# EAGLE library part 615108150221R (library WR-MJ)
WR-MJ Cat 3 Modular Jacks – THR Characteristics Shieldingless and Shielded with EMI-Spring option Optional LEDs in various sequences Vertical and Horizontal orientation Stacked and assembled configurations Tape & Reel packaging for pick-and-place assembly (Tray for larger stacks) Properties PoE++ Compatible up to 100W (IEEE 802.3bt) UL and cULus-Certified UL94-V0 reflow-compatible insulator material Ethernet Category 3 – Category 5 under conditions Applications Networks Internet of Things Smart Buildings <https://www.we-online.com/components/media/o863340v209%20Multi-WR-MJTH-615108137421R.jpg> Details see: www.we-online.com/en/components/products/WR_MJ_MODULAR_JACKS_THR <www.we-online.com/catalog/WR_MJ_MODULAR_JACKS_THR/?utm_source=eagle_model&utm_medium=description_link&utm_campaign=eisos_eagle> Updated by Yingchun Shan 2020-01-03 2020(C) Würth Elektronik
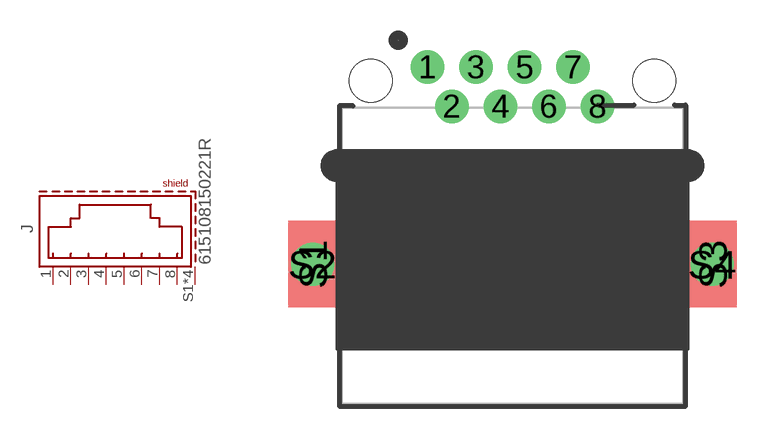
[diagram p65: symbol with the pads of 615108150221R; footprint 615108150221R]

Designator prefix J

## 615108150221R (APPLICATION-SYSTEM: CAT 3; DATASHEET-URL: https://www.we-online.com/redexpert/spec/615108150221R?ae; EMI: ; LED: /; MOUNT: THR; PART-NUMBER: 615108150221R; SIZE: Horizontal; TAB: Down; VALUE: 615108150221R; XPXC: 8P8C)  [615108150221R]
1  8  pas
2  7  pas
3  6  pas
4  5  pas
5  4  pas
6  3  pas
7  2  pas
8  1  pas
S1  SHIELD  pas
S2  SHIELD  pas
S3  SHIELD  pas
S4  SHIELD  pas

## Footprint 615108150221R (pad centres in mm)
WR-MJ Modular Jack THR Horizontal Mid-Mount Shielded Tab Down
drill 0.9: 1 -3.57,6.95; 2 -2.55,5.3; 3 -1.53,6.95; 4 -0.51,5.3; 5 0.51,6.95; 6 1.53,5.3; 7 2.55,6.95; 8 3.57,5.3
smd 2.05 x 3.63: S1 -8.4,-1.33; S3 8.4,-1.33
drill 1.2: S2 -8.4,-1.33; S4 8.4,-1.33
hole 1.8 at 5.95,6.37
hole 1.8 at -5.95,6.37